# Altium footprint library AUVic_PCB_Library_Regulators.PcbLib: 153 footprints (part 9 of 10)
Each footprint in its own frame and in the unit in brackets; x right, y up, seen from the top. Pads: shape width x height; smd on the part's side, far side on the other; paste and mask are expansions set on the pad; w line width, h text height; cw(c..) or ccw(c..) is an arc to the next point about the centre after c.
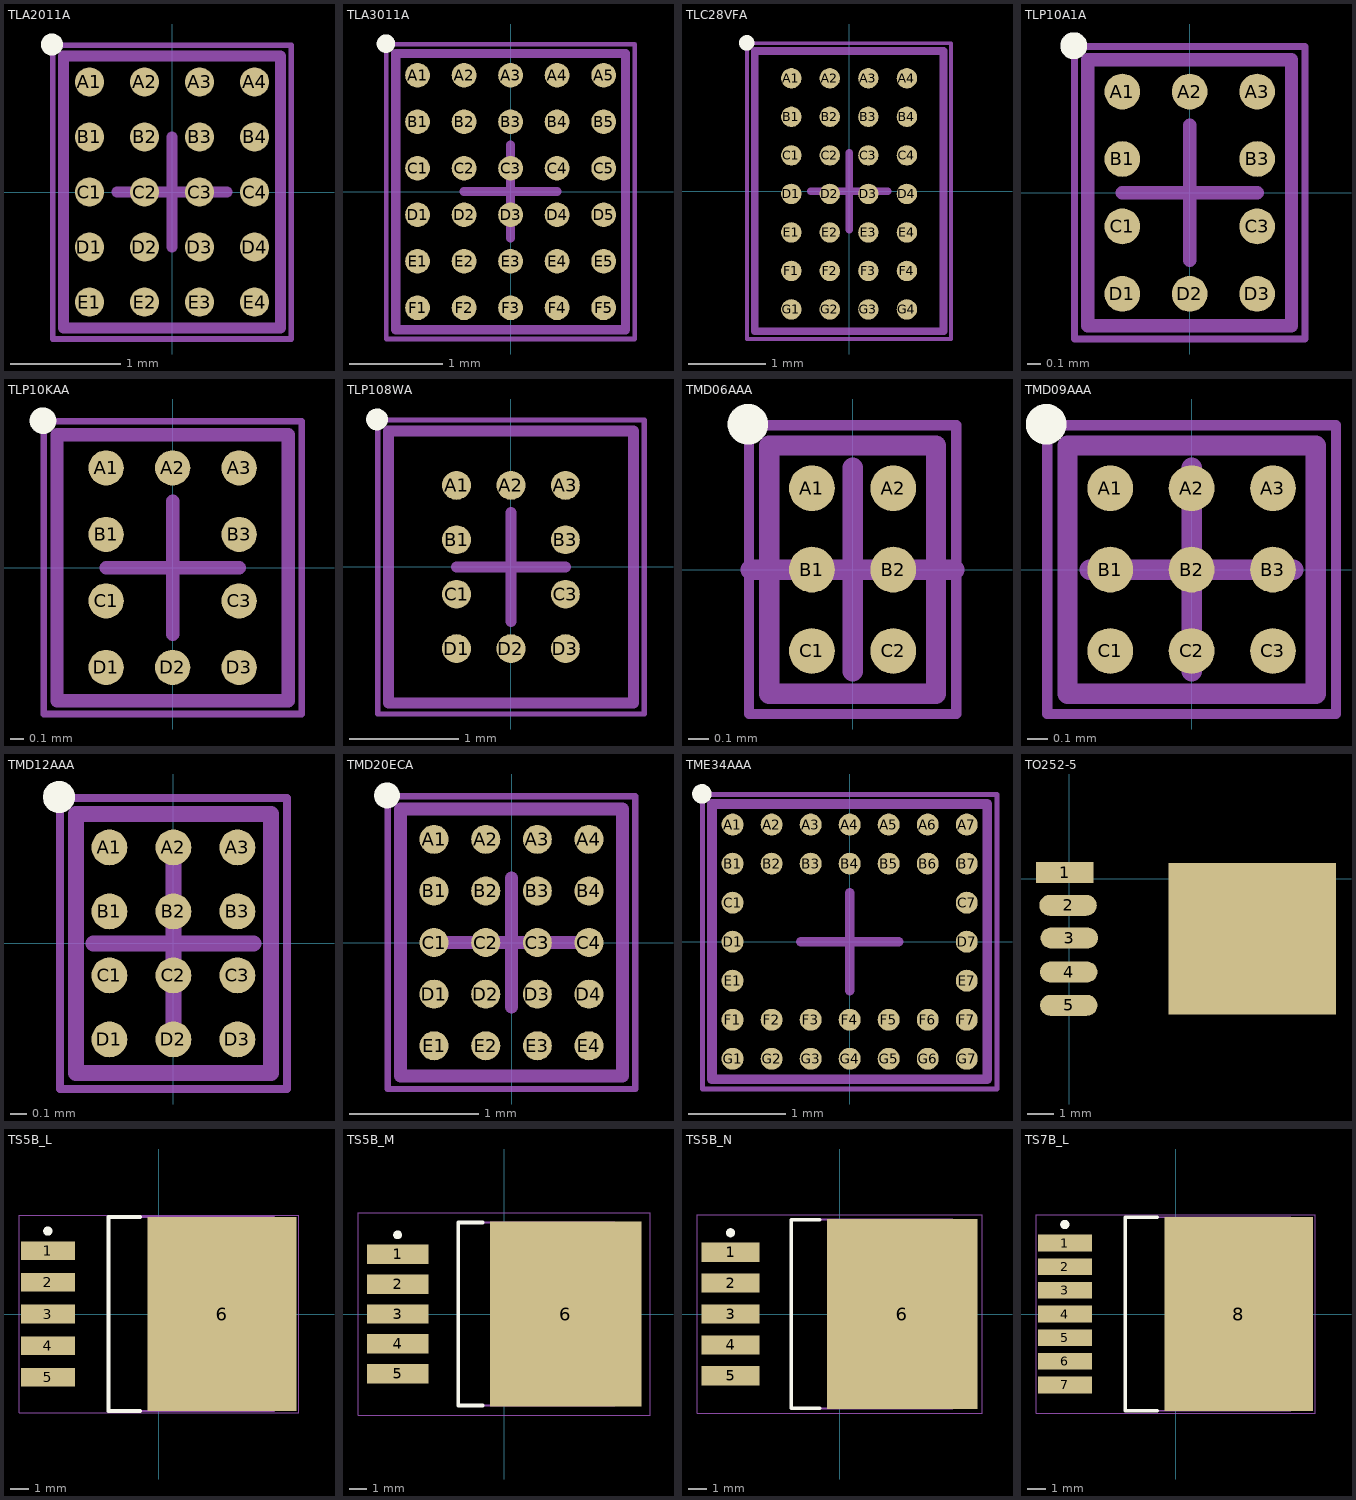
[diagram p8: the footprints below, top view; thin cyan lines are the x and y axes]

## TLA2011A [mm] "Micro SMD, 20-Leads, Body 2.47x1.97mm, Pitch 0.5mm, NSC Recommended"
height 0.68
pads (20):
  round 0.265 smd paste-0.132 mask+0.05: A1(-0.75,1) A2(-0.25,1) A3(0.25,1) A4(0.75,1) B1(-0.75,0.5) B2(-0.25,0.5) B3(0.25,0.5) B4(0.75,0.5) C1(-0.75,0) C2(-0.25,0) C3(0.25,0) C4(0.75,0) D1(-0.75,-0.5) D2(-0.25,-0.5) D3(0.25,-0.5) D4(0.75,-0.5) E1(-0.75,-1) E2(-0.25,-1) E3(0.25,-1) E4(0.75,-1)
Top Overlay:
  circle w0.1: c-1.09,1.34 r0.05
Top Paste:
  drawing of 180 lines, arcs and shapes, not listed
Body Top:
  lines w0.1: -0.985,-1.235 0.985,-1.235 0.985,1.235 -0.985,1.235 -0.985,-1.235
Courtyard Top:
  lines w0.05: -1.085,-1.335 1.085,-1.335 1.085,1.335 -1.085,1.335 -1.085,-1.335
  lines w0.1: -0.5,0 0.5,0 ; 0,-0.5 0,0.5
3D body: height 0.68, standoff 0, extent -0.985,-1.235 0.985,1.235

## TLA3011A [mm] "Micro SMD, 30-Leads, Body 2.97x2.47mm, Pitch 0.5mm, NSC Recommended"
height 0.68
pads (30):
  round 0.265 smd paste-0.132 mask+0.05: A1(-1,1.25) A2(-0.5,1.25) A3(0,1.25) A4(0.5,1.25) A5(1,1.25) B1(-1,0.75) B2(-0.5,0.75) B3(0,0.75) B4(0.5,0.75) B5(1,0.75) C1(-1,0.25) C2(-0.5,0.25) C3(0,0.25) C4(0.5,0.25) C5(1,0.25) D1(-1,-0.25) D2(-0.5,-0.25) D3(0,-0.25) D4(0.5,-0.25) D5(1,-0.25) E1(-1,-0.75) E2(-0.5,-0.75) E3(0,-0.75) E4(0.5,-0.75) E5(1,-0.75) F1(-1,-1.25) F2(-0.5,-1.25) F3(0,-1.25) F4(0.5,-1.25) F5(1,-1.25)
Top Overlay:
  circle w0.1: c-1.34,1.59 r0.05
Top Paste:
  drawing of 270 lines, arcs and shapes, not listed
Body Top:
  lines w0.1: -1.235,-1.485 1.235,-1.485 1.235,1.485 -1.235,1.485 -1.235,-1.485
Courtyard Top:
  lines w0.05: -1.335,-1.585 1.335,-1.585 1.335,1.585 -1.335,1.585 -1.335,-1.585
  lines w0.1: -0.5,0 0.5,0 ; 0,-0.5 0,0.5
3D body: height 0.68, standoff 0, extent -1.235,-1.485 1.235,1.485

## TLC28VFA [mm] "Micro SMD, 28-Leads, Body 3.64x2.45mm, Pitch 0.5mm, NSC Recommended"
height 0.68
pads (28):
  round 0.265 smd paste-0.132 mask+0.05: A1(-0.75,1.464) A2(-0.25,1.464) A3(0.25,1.464) A4(0.75,1.464) B1(-0.75,0.964) B2(-0.25,0.964) B3(0.25,0.964) B4(0.75,0.964) C1(-0.75,0.464) C2(-0.25,0.464) C3(0.25,0.464) C4(0.75,0.464) D1(-0.75,-0.036) D2(-0.25,-0.036) D3(0.25,-0.036) D4(0.75,-0.036) E1(-0.75,-0.536) E2(-0.25,-0.536) E3(0.25,-0.536) E4(0.75,-0.536) F1(-0.75,-1.036) F2(-0.25,-1.036) F3(0.25,-1.036) F4(0.75,-1.036) G1(-0.75,-1.536) G2(-0.25,-1.536) G3(0.25,-1.536) G4(0.75,-1.536)
Top Overlay:
  circle w0.1: c-1.33,1.925 r0.05
Top Paste:
  drawing of 252 lines, arcs and shapes, not listed
Body Top:
  lines w0.1: -1.225,-1.82 1.225,-1.82 1.225,1.82 -1.225,1.82 -1.225,-1.82
Courtyard Top:
  lines w0.05: -1.325,-1.92 1.325,-1.92 1.325,1.92 -1.325,1.92 -1.325,-1.92
  lines w0.1: -0.5,0 0.5,0 ; 0,-0.5 0,0.5
3D body: height 0.68, standoff 0, extent -1.225,-1.82 1.225,1.82

## TLP10A1A [mm] "Micro SMD, 10-Leads, Body 1.97x1.51mm, Pitch 0.5mm, NSC Recommended"
height 0.68
pads (10):
  round 0.265 smd paste-0.132 mask+0.05: A1(-0.5,0.75) A2(0,0.75) A3(0.5,0.75) B1(-0.5,0.25) B3(0.5,0.25) C1(-0.5,-0.25) C3(0.5,-0.25) D1(-0.5,-0.75) D2(0,-0.75) D3(0.5,-0.75)
Top Overlay:
  circle w0.1: c-0.86,1.09 r0.05
Top Paste:
  circle w0.05: c-0.575,0.675 r0.025
  circle w0.05: c-0.425,0.825 r0.025
  circle w0.05: c-0.425,0.675 r0.025
  circle w0.05: c-0.575,0.825 r0.025
  circle w0.05: c-0.075,0.675 r0.025
  circle w0.05: c0.075,0.825 r0.025
  circle w0.05: c0.075,0.675 r0.025
  circle w0.05: c-0.075,0.825 r0.025
  circle w0.05: c0.425,0.675 r0.025
  circle w0.05: c0.575,0.825 r0.025
  circle w0.05: c0.575,0.675 r0.025
  circle w0.05: c0.425,0.825 r0.025
  circle w0.05: c-0.575,0.175 r0.025
  circle w0.05: c-0.425,0.325 r0.025
  circle w0.05: c-0.425,0.175 r0.025
  circle w0.05: c-0.575,0.325 r0.025
  circle w0.05: c0.425,0.175 r0.025
  circle w0.05: c0.575,0.325 r0.025
  circle w0.05: c0.575,0.175 r0.025
  circle w0.05: c0.425,0.325 r0.025
  circle w0.05: c-0.575,-0.325 r0.025
  circle w0.05: c-0.425,-0.175 r0.025
  circle w0.05: c-0.425,-0.325 r0.025
  circle w0.05: c-0.575,-0.175 r0.025
  circle w0.05: c0.425,-0.325 r0.025
  circle w0.05: c0.575,-0.175 r0.025
  circle w0.05: c0.575,-0.325 r0.025
  circle w0.05: c0.425,-0.175 r0.025
  circle w0.05: c-0.575,-0.825 r0.025
  circle w0.05: c-0.425,-0.675 r0.025
  circle w0.05: c-0.425,-0.825 r0.025
  circle w0.05: c-0.575,-0.675 r0.025
  circle w0.05: c-0.075,-0.825 r0.025
  circle w0.05: c0.075,-0.675 r0.025
  circle w0.05: c0.075,-0.825 r0.025
  circle w0.05: c-0.075,-0.675 r0.025
  circle w0.05: c0.425,-0.825 r0.025
  circle w0.05: c0.575,-0.675 r0.025
  circle w0.05: c0.575,-0.825 r0.025
  circle w0.05: c0.425,-0.675 r0.025
  region: -0.575,0.825 -0.575,0.675 -0.425,0.675 -0.425,0.825
  region: -0.575,0.675 -0.575,0.825 -0.625,0.825 -0.625,0.675
  rectangle: -0.575,0.825 -0.425,0.875
  region: -0.425,0.825 -0.425,0.675 -0.375,0.675 -0.375,0.825
  region: -0.425,0.675 -0.575,0.675 -0.575,0.625 -0.425,0.625
  region: -0.075,0.825 -0.075,0.675 0.075,0.675 0.075,0.825
  region: -0.075,0.675 -0.075,0.825 -0.125,0.825 -0.125,0.675
  rectangle: -0.075,0.825 0.075,0.875
  region: 0.075,0.825 0.075,0.675 0.125,0.675 0.125,0.825
  region: 0.075,0.675 -0.075,0.675 -0.075,0.625 0.075,0.625
  region: 0.425,0.825 0.425,0.675 0.575,0.675 0.575,0.825
  region: 0.425,0.675 0.425,0.825 0.375,0.825 0.375,0.675
  rectangle: 0.425,0.825 0.575,0.875
  region: 0.575,0.825 0.575,0.675 0.625,0.675 0.625,0.825
  region: 0.575,0.675 0.425,0.675 0.425,0.625 0.575,0.625
  region: -0.575,0.325 -0.575,0.175 -0.425,0.175 -0.425,0.325
  region: -0.575,0.175 -0.575,0.325 -0.625,0.325 -0.625,0.175
  rectangle: -0.575,0.325 -0.425,0.375
  region: -0.425,0.325 -0.425,0.175 -0.375,0.175 -0.375,0.325
  region: -0.425,0.175 -0.575,0.175 -0.575,0.125 -0.425,0.125
  region: 0.425,0.325 0.425,0.175 0.575,0.175 0.575,0.325
  region: 0.425,0.175 0.425,0.325 0.375,0.325 0.375,0.175
  rectangle: 0.425,0.325 0.575,0.375
  region: 0.575,0.325 0.575,0.175 0.625,0.175 0.625,0.325
  region: 0.575,0.175 0.425,0.175 0.425,0.125 0.575,0.125
  region: -0.575,-0.175 -0.575,-0.325 -0.425,-0.325 -0.425,-0.175
  region: -0.575,-0.325 -0.575,-0.175 -0.625,-0.175 -0.625,-0.325
  rectangle: -0.575,-0.175 -0.425,-0.125
  region: -0.425,-0.175 -0.425,-0.325 -0.375,-0.325 -0.375,-0.175
  region: -0.425,-0.325 -0.575,-0.325 -0.575,-0.375 -0.425,-0.375
  region: 0.425,-0.175 0.425,-0.325 0.575,-0.325 0.575,-0.175
  region: 0.425,-0.325 0.425,-0.175 0.375,-0.175 0.375,-0.325
  rectangle: 0.425,-0.175 0.575,-0.125
  region: 0.575,-0.175 0.575,-0.325 0.625,-0.325 0.625,-0.175
  region: 0.575,-0.325 0.425,-0.325 0.425,-0.375 0.575,-0.375
  region: -0.575,-0.675 -0.575,-0.825 -0.425,-0.825 -0.425,-0.675
  region: -0.575,-0.825 -0.575,-0.675 -0.625,-0.675 -0.625,-0.825
  rectangle: -0.575,-0.675 -0.425,-0.625
  region: -0.425,-0.675 -0.425,-0.825 -0.375,-0.825 -0.375,-0.675
  region: -0.425,-0.825 -0.575,-0.825 -0.575,-0.875 -0.425,-0.875
  region: -0.075,-0.675 -0.075,-0.825 0.075,-0.825 0.075,-0.675
  region: -0.075,-0.825 -0.075,-0.675 -0.125,-0.675 -0.125,-0.825
  rectangle: -0.075,-0.675 0.075,-0.625
  region: 0.075,-0.675 0.075,-0.825 0.125,-0.825 0.125,-0.675
  region: 0.075,-0.825 -0.075,-0.825 -0.075,-0.875 0.075,-0.875
  region: 0.425,-0.675 0.425,-0.825 0.575,-0.825 0.575,-0.675
  region: 0.425,-0.825 0.425,-0.675 0.375,-0.675 0.375,-0.825
  rectangle: 0.425,-0.675 0.575,-0.625
  region: 0.575,-0.675 0.575,-0.825 0.625,-0.825 0.625,-0.675
  region: 0.575,-0.825 0.425,-0.825 0.425,-0.875 0.575,-0.875
Body Top:
  lines w0.1: -0.755,-0.985 -0.755,0.985 0.755,0.985 0.755,-0.985 -0.755,-0.985
Courtyard Top:
  lines w0.05: -0.855,-1.085 -0.855,1.085 0.855,1.085 0.855,-1.085 -0.855,-1.085
  lines w0.1: -0.5,0 0.5,0 ; 0,-0.5 0,0.5
3D body: height 0.68, standoff 0, extent -0.755,-0.985 0.755,0.985

## TLP10KAA [mm] "Micro SMD, 10-Leads, Body 2x1.74mm, Pitch 0.5mm, NSC Recommended"
height 0.68
pads (10):
  round 0.265 smd paste-0.132 mask+0.05: A1(-0.5,0.75) A2(0,0.75) A3(0.5,0.75) B1(-0.5,0.25) B3(0.5,0.25) C1(-0.5,-0.25) C3(0.5,-0.25) D1(-0.5,-0.75) D2(0,-0.75) D3(0.5,-0.75)
Top Overlay:
  circle w0.1: c-0.975,1.105 r0.05
Top Paste:
  circle w0.05: c-0.575,0.675 r0.025
  circle w0.05: c-0.425,0.825 r0.025
  circle w0.05: c-0.425,0.675 r0.025
  circle w0.05: c-0.575,0.825 r0.025
  circle w0.05: c-0.075,0.675 r0.025
  circle w0.05: c0.075,0.825 r0.025
  circle w0.05: c0.075,0.675 r0.025
  circle w0.05: c-0.075,0.825 r0.025
  circle w0.05: c0.425,0.675 r0.025
  circle w0.05: c0.575,0.825 r0.025
  circle w0.05: c0.575,0.675 r0.025
  circle w0.05: c0.425,0.825 r0.025
  circle w0.05: c-0.575,0.175 r0.025
  circle w0.05: c-0.425,0.325 r0.025
  circle w0.05: c-0.425,0.175 r0.025
  circle w0.05: c-0.575,0.325 r0.025
  circle w0.05: c0.425,0.175 r0.025
  circle w0.05: c0.575,0.325 r0.025
  circle w0.05: c0.575,0.175 r0.025
  circle w0.05: c0.425,0.325 r0.025
  circle w0.05: c-0.575,-0.325 r0.025
  circle w0.05: c-0.425,-0.175 r0.025
  circle w0.05: c-0.425,-0.325 r0.025
  circle w0.05: c-0.575,-0.175 r0.025
  circle w0.05: c0.425,-0.325 r0.025
  circle w0.05: c0.575,-0.175 r0.025
  circle w0.05: c0.575,-0.325 r0.025
  circle w0.05: c0.425,-0.175 r0.025
  circle w0.05: c-0.575,-0.825 r0.025
  circle w0.05: c-0.425,-0.675 r0.025
  circle w0.05: c-0.425,-0.825 r0.025
  circle w0.05: c-0.575,-0.675 r0.025
  circle w0.05: c-0.075,-0.825 r0.025
  circle w0.05: c0.075,-0.675 r0.025
  circle w0.05: c0.075,-0.825 r0.025
  circle w0.05: c-0.075,-0.675 r0.025
  circle w0.05: c0.425,-0.825 r0.025
  circle w0.05: c0.575,-0.675 r0.025
  circle w0.05: c0.575,-0.825 r0.025
  circle w0.05: c0.425,-0.675 r0.025
  region: -0.575,0.825 -0.575,0.675 -0.425,0.675 -0.425,0.825
  region: -0.575,0.675 -0.575,0.825 -0.625,0.825 -0.625,0.675
  rectangle: -0.575,0.825 -0.425,0.875
  region: -0.425,0.825 -0.425,0.675 -0.375,0.675 -0.375,0.825
  region: -0.425,0.675 -0.575,0.675 -0.575,0.625 -0.425,0.625
  region: -0.075,0.825 -0.075,0.675 0.075,0.675 0.075,0.825
  region: -0.075,0.675 -0.075,0.825 -0.125,0.825 -0.125,0.675
  rectangle: -0.075,0.825 0.075,0.875
  region: 0.075,0.825 0.075,0.675 0.125,0.675 0.125,0.825
  region: 0.075,0.675 -0.075,0.675 -0.075,0.625 0.075,0.625
  region: 0.425,0.825 0.425,0.675 0.575,0.675 0.575,0.825
  region: 0.425,0.675 0.425,0.825 0.375,0.825 0.375,0.675
  rectangle: 0.425,0.825 0.575,0.875
  region: 0.575,0.825 0.575,0.675 0.625,0.675 0.625,0.825
  region: 0.575,0.675 0.425,0.675 0.425,0.625 0.575,0.625
  region: -0.575,0.325 -0.575,0.175 -0.425,0.175 -0.425,0.325
  region: -0.575,0.175 -0.575,0.325 -0.625,0.325 -0.625,0.175
  rectangle: -0.575,0.325 -0.425,0.375
  region: -0.425,0.325 -0.425,0.175 -0.375,0.175 -0.375,0.325
  region: -0.425,0.175 -0.575,0.175 -0.575,0.125 -0.425,0.125
  region: 0.425,0.325 0.425,0.175 0.575,0.175 0.575,0.325
  region: 0.425,0.175 0.425,0.325 0.375,0.325 0.375,0.175
  rectangle: 0.425,0.325 0.575,0.375
  region: 0.575,0.325 0.575,0.175 0.625,0.175 0.625,0.325
  region: 0.575,0.175 0.425,0.175 0.425,0.125 0.575,0.125
  region: -0.575,-0.175 -0.575,-0.325 -0.425,-0.325 -0.425,-0.175
  region: -0.575,-0.325 -0.575,-0.175 -0.625,-0.175 -0.625,-0.325
  rectangle: -0.575,-0.175 -0.425,-0.125
  region: -0.425,-0.175 -0.425,-0.325 -0.375,-0.325 -0.375,-0.175
  region: -0.425,-0.325 -0.575,-0.325 -0.575,-0.375 -0.425,-0.375
  region: 0.425,-0.175 0.425,-0.325 0.575,-0.325 0.575,-0.175
  region: 0.425,-0.325 0.425,-0.175 0.375,-0.175 0.375,-0.325
  rectangle: 0.425,-0.175 0.575,-0.125
  region: 0.575,-0.175 0.575,-0.325 0.625,-0.325 0.625,-0.175
  region: 0.575,-0.325 0.425,-0.325 0.425,-0.375 0.575,-0.375
  region: -0.575,-0.675 -0.575,-0.825 -0.425,-0.825 -0.425,-0.675
  region: -0.575,-0.825 -0.575,-0.675 -0.625,-0.675 -0.625,-0.825
  rectangle: -0.575,-0.675 -0.425,-0.625
  region: -0.425,-0.675 -0.425,-0.825 -0.375,-0.825 -0.375,-0.675
  region: -0.425,-0.825 -0.575,-0.825 -0.575,-0.875 -0.425,-0.875
  region: -0.075,-0.675 -0.075,-0.825 0.075,-0.825 0.075,-0.675
  region: -0.075,-0.825 -0.075,-0.675 -0.125,-0.675 -0.125,-0.825
  rectangle: -0.075,-0.675 0.075,-0.625
  region: 0.075,-0.675 0.075,-0.825 0.125,-0.825 0.125,-0.675
  region: 0.075,-0.825 -0.075,-0.825 -0.075,-0.875 0.075,-0.875
  region: 0.425,-0.675 0.425,-0.825 0.575,-0.825 0.575,-0.675
  region: 0.425,-0.825 0.425,-0.675 0.375,-0.675 0.375,-0.825
  rectangle: 0.425,-0.675 0.575,-0.625
  region: 0.575,-0.675 0.575,-0.825 0.625,-0.825 0.625,-0.675
  region: 0.575,-0.825 0.425,-0.825 0.425,-0.875 0.575,-0.875
Body Top:
  lines w0.1: -0.87,-1 -0.87,1 0.87,1 0.87,-1 -0.87,-1
Courtyard Top:
  lines w0.05: -0.97,-1.1 -0.97,1.1 0.97,1.1 0.97,-1.1 -0.97,-1.1
  lines w0.1: -0.5,0 0.5,0 ; 0,-0.5 0,0.5
3D body: height 0.68, standoff 0, extent -0.87,-1 0.87,1

## TLP108WA [mm] "Micro SMD, 10-Leads, Body 2.5x2.25mm, Pitch 0.5mm, NSC Recommended"
height 0.68
pads (10):
  round 0.265 smd paste-0.132 mask+0.05: A1(-0.5,0.75) A2(0,0.75) A3(0.5,0.75) B1(-0.5,0.25) B3(0.5,0.25) C1(-0.5,-0.25) C3(0.5,-0.25) D1(-0.5,-0.75) D2(0,-0.75) D3(0.5,-0.75)
Top Overlay:
  circle w0.1: c-1.23,1.355 r0.05
Top Paste:
  circle w0.05: c-0.575,0.675 r0.025
  circle w0.05: c-0.425,0.825 r0.025
  circle w0.05: c-0.425,0.675 r0.025
  circle w0.05: c-0.575,0.825 r0.025
  circle w0.05: c-0.075,0.675 r0.025
  circle w0.05: c0.075,0.825 r0.025
  circle w0.05: c0.075,0.675 r0.025
  circle w0.05: c-0.075,0.825 r0.025
  circle w0.05: c0.425,0.675 r0.025
  circle w0.05: c0.575,0.825 r0.025
  circle w0.05: c0.575,0.675 r0.025
  circle w0.05: c0.425,0.825 r0.025
  circle w0.05: c-0.575,0.175 r0.025
  circle w0.05: c-0.425,0.325 r0.025
  circle w0.05: c-0.425,0.175 r0.025
  circle w0.05: c-0.575,0.325 r0.025
  circle w0.05: c0.425,0.175 r0.025
  circle w0.05: c0.575,0.325 r0.025
  circle w0.05: c0.575,0.175 r0.025
  circle w0.05: c0.425,0.325 r0.025
  circle w0.05: c-0.575,-0.325 r0.025
  circle w0.05: c-0.425,-0.175 r0.025
  circle w0.05: c-0.425,-0.325 r0.025
  circle w0.05: c-0.575,-0.175 r0.025
  circle w0.05: c0.425,-0.325 r0.025
  circle w0.05: c0.575,-0.175 r0.025
  circle w0.05: c0.575,-0.325 r0.025
  circle w0.05: c0.425,-0.175 r0.025
  circle w0.05: c-0.575,-0.825 r0.025
  circle w0.05: c-0.425,-0.675 r0.025
  circle w0.05: c-0.425,-0.825 r0.025
  circle w0.05: c-0.575,-0.675 r0.025
  circle w0.05: c-0.075,-0.825 r0.025
  circle w0.05: c0.075,-0.675 r0.025
  circle w0.05: c0.075,-0.825 r0.025
  circle w0.05: c-0.075,-0.675 r0.025
  circle w0.05: c0.425,-0.825 r0.025
  circle w0.05: c0.575,-0.675 r0.025
  circle w0.05: c0.575,-0.825 r0.025
  circle w0.05: c0.425,-0.675 r0.025
  region: -0.575,0.825 -0.575,0.675 -0.425,0.675 -0.425,0.825
  region: -0.575,0.675 -0.575,0.825 -0.625,0.825 -0.625,0.675
  rectangle: -0.575,0.825 -0.425,0.875
  region: -0.425,0.825 -0.425,0.675 -0.375,0.675 -0.375,0.825
  region: -0.425,0.675 -0.575,0.675 -0.575,0.625 -0.425,0.625
  region: -0.075,0.825 -0.075,0.675 0.075,0.675 0.075,0.825
  region: -0.075,0.675 -0.075,0.825 -0.125,0.825 -0.125,0.675
  rectangle: -0.075,0.825 0.075,0.875
  region: 0.075,0.825 0.075,0.675 0.125,0.675 0.125,0.825
  region: 0.075,0.675 -0.075,0.675 -0.075,0.625 0.075,0.625
  region: 0.425,0.825 0.425,0.675 0.575,0.675 0.575,0.825
  region: 0.425,0.675 0.425,0.825 0.375,0.825 0.375,0.675
  rectangle: 0.425,0.825 0.575,0.875
  region: 0.575,0.825 0.575,0.675 0.625,0.675 0.625,0.825
  region: 0.575,0.675 0.425,0.675 0.425,0.625 0.575,0.625
  region: -0.575,0.325 -0.575,0.175 -0.425,0.175 -0.425,0.325
  region: -0.575,0.175 -0.575,0.325 -0.625,0.325 -0.625,0.175
  rectangle: -0.575,0.325 -0.425,0.375
  region: -0.425,0.325 -0.425,0.175 -0.375,0.175 -0.375,0.325
  region: -0.425,0.175 -0.575,0.175 -0.575,0.125 -0.425,0.125
  region: 0.425,0.325 0.425,0.175 0.575,0.175 0.575,0.325
  region: 0.425,0.175 0.425,0.325 0.375,0.325 0.375,0.175
  rectangle: 0.425,0.325 0.575,0.375
  region: 0.575,0.325 0.575,0.175 0.625,0.175 0.625,0.325
  region: 0.575,0.175 0.425,0.175 0.425,0.125 0.575,0.125
  region: -0.575,-0.175 -0.575,-0.325 -0.425,-0.325 -0.425,-0.175
  region: -0.575,-0.325 -0.575,-0.175 -0.625,-0.175 -0.625,-0.325
  rectangle: -0.575,-0.175 -0.425,-0.125
  region: -0.425,-0.175 -0.425,-0.325 -0.375,-0.325 -0.375,-0.175
  region: -0.425,-0.325 -0.575,-0.325 -0.575,-0.375 -0.425,-0.375
  region: 0.425,-0.175 0.425,-0.325 0.575,-0.325 0.575,-0.175
  region: 0.425,-0.325 0.425,-0.175 0.375,-0.175 0.375,-0.325
  rectangle: 0.425,-0.175 0.575,-0.125
  region: 0.575,-0.175 0.575,-0.325 0.625,-0.325 0.625,-0.175
  region: 0.575,-0.325 0.425,-0.325 0.425,-0.375 0.575,-0.375
  region: -0.575,-0.675 -0.575,-0.825 -0.425,-0.825 -0.425,-0.675
  region: -0.575,-0.825 -0.575,-0.675 -0.625,-0.675 -0.625,-0.825
  rectangle: -0.575,-0.675 -0.425,-0.625
  region: -0.425,-0.675 -0.425,-0.825 -0.375,-0.825 -0.375,-0.675
  region: -0.425,-0.825 -0.575,-0.825 -0.575,-0.875 -0.425,-0.875
  region: -0.075,-0.675 -0.075,-0.825 0.075,-0.825 0.075,-0.675
  region: -0.075,-0.825 -0.075,-0.675 -0.125,-0.675 -0.125,-0.825
  rectangle: -0.075,-0.675 0.075,-0.625
  region: 0.075,-0.675 0.075,-0.825 0.125,-0.825 0.125,-0.675
  region: 0.075,-0.825 -0.075,-0.825 -0.075,-0.875 0.075,-0.875
  region: 0.425,-0.675 0.425,-0.825 0.575,-0.825 0.575,-0.675
  region: 0.425,-0.825 0.425,-0.675 0.375,-0.675 0.375,-0.825
  rectangle: 0.425,-0.675 0.575,-0.625
  region: 0.575,-0.675 0.575,-0.825 0.625,-0.825 0.625,-0.675
  region: 0.575,-0.825 0.425,-0.825 0.425,-0.875 0.575,-0.875
Body Top:
  lines w0.1: -1.125,-1.25 -1.125,1.25 1.125,1.25 1.125,-1.25 -1.125,-1.25
Courtyard Top:
  lines w0.05: -1.225,-1.35 -1.225,1.35 1.225,1.35 1.225,-1.35 -1.225,-1.35
  lines w0.1: -0.5,0 0.5,0 ; 0,-0.5 0,0.5
3D body: height 0.68, standoff 0, extent -1.125,-1.25 1.125,1.25

## TMD06AAA [mm] "Micro SMD, 6-Leads, Body 1.22x0.82mm, Pitch 0.4mm, NSC Recommended"
height 0.68
pads (6):
  round 0.225 smd paste-0.112 mask+0.05: A1(-0.2,0.4) A2(0.2,0.4) B1(-0.2,0) B2(0.2,0) C1(-0.2,-0.4) C2(0.2,-0.4)
Top Overlay:
  circle w0.1: c-0.515,0.715 r0.05
Top Paste:
  circle w0.05: c0.275,-0.475 r0.025
  circle w0.05: c0.125,-0.325 r0.025
  circle w0.05: c0.125,-0.475 r0.025
  circle w0.05: c0.275,-0.325 r0.025
  circle w0.05: c-0.125,-0.475 r0.025
  circle w0.05: c-0.275,-0.325 r0.025
  circle w0.05: c-0.275,-0.475 r0.025
  circle w0.05: c-0.125,-0.325 r0.025
  circle w0.05: c0.275,-0.075 r0.025
  circle w0.05: c0.125,0.075 r0.025
  circle w0.05: c0.125,-0.075 r0.025
  circle w0.05: c0.275,0.075 r0.025
  circle w0.05: c-0.125,-0.075 r0.025
  circle w0.05: c-0.275,0.075 r0.025
  circle w0.05: c-0.275,-0.075 r0.025
  circle w0.05: c-0.125,0.075 r0.025
  circle w0.05: c0.275,0.325 r0.025
  circle w0.05: c0.125,0.475 r0.025
  circle w0.05: c0.125,0.325 r0.025
  circle w0.05: c0.275,0.475 r0.025
  circle w0.05: c-0.125,0.325 r0.025
  circle w0.05: c-0.275,0.475 r0.025
  circle w0.05: c-0.275,0.325 r0.025
  circle w0.05: c-0.125,0.475 r0.025
  region: 0.125,-0.325 0.125,-0.475 0.275,-0.475 0.275,-0.325
  region: 0.325,-0.475 0.325,-0.325 0.275,-0.325 0.275,-0.475
  region: 0.275,-0.275 0.125,-0.275 0.125,-0.325 0.275,-0.325
  region: 0.075,-0.325 0.075,-0.475 0.125,-0.475 0.125,-0.325
  rectangle: 0.125,-0.525 0.275,-0.475
  region: -0.275,-0.325 -0.275,-0.475 -0.125,-0.475 -0.125,-0.325
  region: -0.075,-0.475 -0.075,-0.325 -0.125,-0.325 -0.125,-0.475
  region: -0.125,-0.275 -0.275,-0.275 -0.275,-0.325 -0.125,-0.325
  region: -0.325,-0.325 -0.325,-0.475 -0.275,-0.475 -0.275,-0.325
  rectangle: -0.275,-0.525 -0.125,-0.475
  region: 0.125,0.075 0.125,-0.075 0.275,-0.075 0.275,0.075
  region: 0.325,-0.075 0.325,0.075 0.275,0.075 0.275,-0.075
  region: 0.275,0.125 0.125,0.125 0.125,0.075 0.275,0.075
  region: 0.075,0.075 0.075,-0.075 0.125,-0.075 0.125,0.075
  rectangle: 0.125,-0.125 0.275,-0.075
  region: -0.275,0.075 -0.275,-0.075 -0.125,-0.075 -0.125,0.075
  region: -0.075,-0.075 -0.075,0.075 -0.125,0.075 -0.125,-0.075
  region: -0.125,0.125 -0.275,0.125 -0.275,0.075 -0.125,0.075
  region: -0.325,0.075 -0.325,-0.075 -0.275,-0.075 -0.275,0.075
  rectangle: -0.275,-0.125 -0.125,-0.075
  region: 0.125,0.475 0.125,0.325 0.275,0.325 0.275,0.475
  region: 0.325,0.325 0.325,0.475 0.275,0.475 0.275,0.325
  region: 0.275,0.525 0.125,0.525 0.125,0.475 0.275,0.475
  region: 0.075,0.475 0.075,0.325 0.125,0.325 0.125,0.475
  rectangle: 0.125,0.275 0.275,0.325
  region: -0.275,0.475 -0.275,0.325 -0.125,0.325 -0.125,0.475
  region: -0.075,0.325 -0.075,0.475 -0.125,0.475 -0.125,0.325
  region: -0.125,0.525 -0.275,0.525 -0.275,0.475 -0.125,0.475
  region: -0.325,0.475 -0.325,0.325 -0.275,0.325 -0.275,0.475
  rectangle: -0.275,0.275 -0.125,0.325
Body Top:
  lines w0.1: -0.41,-0.61 0.41,-0.61 0.41,0.61 -0.41,0.61 -0.41,-0.61
Courtyard Top:
  lines w0.05: -0.51,-0.71 0.51,-0.71 0.51,0.71 -0.51,0.71 -0.51,-0.71
  lines w0.1: -0.5,0 0.5,0 ; 0,-0.5 0,0.5
3D body: height 0.68, standoff 0, extent -0.41,-0.61 0.41,0.61

## TMD09AAA [mm] "Micro SMD, 9-Leads, Body 1.22x1.22mm, Pitch 0.4mm, NSC Recommended"
height 0.68
pads (9):
  round 0.225 smd paste-0.112 mask+0.05: A1(-0.4,0.4) A2(0,0.4) A3(0.4,0.4) B1(-0.4,0) B2(0,0) B3(0.4,0) C1(-0.4,-0.4) C2(0,-0.4) C3(0.4,-0.4)
Top Overlay:
  circle w0.1: c-0.715,0.715 r0.05
Top Paste:
  circle w0.05: c-0.325,0.475 r0.025
  circle w0.05: c-0.475,0.325 r0.025
  circle w0.05: c-0.475,0.475 r0.025
  circle w0.05: c-0.325,0.325 r0.025
  circle w0.05: c0.075,0.475 r0.025
  circle w0.05: c-0.075,0.325 r0.025
  circle w0.05: c-0.075,0.475 r0.025
  circle w0.05: c0.075,0.325 r0.025
  circle w0.05: c0.475,0.475 r0.025
  circle w0.05: c0.325,0.325 r0.025
  circle w0.05: c0.325,0.475 r0.025
  circle w0.05: c0.475,0.325 r0.025
  circle w0.05: c-0.325,0.075 r0.025
  circle w0.05: c-0.475,-0.075 r0.025
  circle w0.05: c-0.475,0.075 r0.025
  circle w0.05: c-0.325,-0.075 r0.025
  circle w0.05: c0.075,0.075 r0.025
  circle w0.05: c-0.075,-0.075 r0.025
  circle w0.05: c-0.075,0.075 r0.025
  circle w0.05: c0.075,-0.075 r0.025
  circle w0.05: c0.475,0.075 r0.025
  circle w0.05: c0.325,-0.075 r0.025
  circle w0.05: c0.325,0.075 r0.025
  circle w0.05: c0.475,-0.075 r0.025
  circle w0.05: c-0.325,-0.325 r0.025
  circle w0.05: c-0.475,-0.475 r0.025
  circle w0.05: c-0.475,-0.325 r0.025
  circle w0.05: c-0.325,-0.475 r0.025
  circle w0.05: c0.075,-0.325 r0.025
  circle w0.05: c-0.075,-0.475 r0.025
  circle w0.05: c-0.075,-0.325 r0.025
  circle w0.05: c0.075,-0.475 r0.025
  circle w0.05: c0.475,-0.325 r0.025
  circle w0.05: c0.325,-0.475 r0.025
  circle w0.05: c0.325,-0.325 r0.025
  circle w0.05: c0.475,-0.475 r0.025
  rectangle: -0.475,0.275 -0.325,0.325
  region: -0.525,0.475 -0.525,0.325 -0.475,0.325 -0.475,0.475
  region: -0.325,0.525 -0.475,0.525 -0.475,0.475 -0.325,0.475
  region: -0.275,0.325 -0.275,0.475 -0.325,0.475 -0.325,0.325
  region: -0.475,0.475 -0.475,0.325 -0.325,0.325 -0.325,0.475
  rectangle: -0.075,0.275 0.075,0.325
  region: -0.125,0.475 -0.125,0.325 -0.075,0.325 -0.075,0.475
  region: 0.075,0.525 -0.075,0.525 -0.075,0.475 0.075,0.475
  region: 0.125,0.325 0.125,0.475 0.075,0.475 0.075,0.325
  region: -0.075,0.475 -0.075,0.325 0.075,0.325 0.075,0.475
  rectangle: 0.325,0.275 0.475,0.325
  region: 0.275,0.475 0.275,0.325 0.325,0.325 0.325,0.475
  region: 0.475,0.525 0.325,0.525 0.325,0.475 0.475,0.475
  region: 0.525,0.325 0.525,0.475 0.475,0.475 0.475,0.325
  region: 0.325,0.475 0.325,0.325 0.475,0.325 0.475,0.475
  rectangle: -0.475,-0.125 -0.325,-0.075
  region: -0.525,0.075 -0.525,-0.075 -0.475,-0.075 -0.475,0.075
  region: -0.325,0.125 -0.475,0.125 -0.475,0.075 -0.325,0.075
  region: -0.275,-0.075 -0.275,0.075 -0.325,0.075 -0.325,-0.075
  region: -0.475,0.075 -0.475,-0.075 -0.325,-0.075 -0.325,0.075
  rectangle: -0.075,-0.125 0.075,-0.075
  region: -0.125,0.075 -0.125,-0.075 -0.075,-0.075 -0.075,0.075
  region: 0.075,0.125 -0.075,0.125 -0.075,0.075 0.075,0.075
  region: 0.125,-0.075 0.125,0.075 0.075,0.075 0.075,-0.075
  region: -0.075,0.075 -0.075,-0.075 0.075,-0.075 0.075,0.075
  rectangle: 0.325,-0.125 0.475,-0.075
  region: 0.275,0.075 0.275,-0.075 0.325,-0.075 0.325,0.075
  region: 0.475,0.125 0.325,0.125 0.325,0.075 0.475,0.075
  region: 0.525,-0.075 0.525,0.075 0.475,0.075 0.475,-0.075
  region: 0.325,0.075 0.325,-0.075 0.475,-0.075 0.475,0.075
  rectangle: -0.475,-0.525 -0.325,-0.475
  region: -0.525,-0.325 -0.525,-0.475 -0.475,-0.475 -0.475,-0.325
  region: -0.325,-0.275 -0.475,-0.275 -0.475,-0.325 -0.325,-0.325
  region: -0.275,-0.475 -0.275,-0.325 -0.325,-0.325 -0.325,-0.475
  region: -0.475,-0.325 -0.475,-0.475 -0.325,-0.475 -0.325,-0.325
  rectangle: -0.075,-0.525 0.075,-0.475
  region: -0.125,-0.325 -0.125,-0.475 -0.075,-0.475 -0.075,-0.325
  region: 0.075,-0.275 -0.075,-0.275 -0.075,-0.325 0.075,-0.325
  region: 0.125,-0.475 0.125,-0.325 0.075,-0.325 0.075,-0.475
  region: -0.075,-0.325 -0.075,-0.475 0.075,-0.475 0.075,-0.325
  rectangle: 0.325,-0.525 0.475,-0.475
  region: 0.275,-0.325 0.275,-0.475 0.325,-0.475 0.325,-0.325
  region: 0.475,-0.275 0.325,-0.275 0.325,-0.325 0.475,-0.325
  region: 0.525,-0.475 0.525,-0.325 0.475,-0.325 0.475,-0.475
  region: 0.325,-0.325 0.325,-0.475 0.475,-0.475 0.475,-0.325
Body Top:
  lines w0.1: -0.61,-0.61 -0.61,0.61 0.61,0.61 0.61,-0.61 -0.61,-0.61
Courtyard Top:
  lines w0.05: -0.71,-0.71 -0.71,0.71 0.71,0.71 0.71,-0.71 -0.71,-0.71
  lines w0.1: -0.5,0 0.5,0 ; 0,-0.5 0,0.5
3D body: height 0.68, standoff 0, extent -0.61,-0.61 0.61,0.61

## TMD12AAA [mm] "Micro SMD, 12-Leads, Body 1.62x1.22mm, Pitch 0.4mm, NSC Recommended"
height 0.68
pads (12):
  round 0.225 smd paste-0.112 mask+0.05: A1(-0.4,0.6) A2(0,0.6) A3(0.4,0.6) B1(-0.4,0.2) B2(0,0.2) B3(0.4,0.2) C1(-0.4,-0.2) C2(0,-0.2) C3(0.4,-0.2) D1(-0.4,-0.6) D2(0,-0.6) D3(0.4,-0.6)
Top Overlay:
  circle w0.1: c-0.715,0.915 r0.05
Top Paste:
  circle w0.05: c0.475,-0.675 r0.025
  circle w0.05: c0.325,-0.525 r0.025
  circle w0.05: c0.325,-0.675 r0.025
  circle w0.05: c0.475,-0.525 r0.025
  circle w0.05: c0.075,-0.675 r0.025
  circle w0.05: c-0.075,-0.525 r0.025
  circle w0.05: c-0.075,-0.675 r0.025
  circle w0.05: c0.075,-0.525 r0.025
  circle w0.05: c-0.325,-0.675 r0.025
  circle w0.05: c-0.475,-0.525 r0.025
  circle w0.05: c-0.475,-0.675 r0.025
  circle w0.05: c-0.325,-0.525 r0.025
  circle w0.05: c0.475,-0.275 r0.025
  circle w0.05: c0.325,-0.125 r0.025
  circle w0.05: c0.325,-0.275 r0.025
  circle w0.05: c0.475,-0.125 r0.025
  circle w0.05: c0.075,-0.275 r0.025
  circle w0.05: c-0.075,-0.125 r0.025
  circle w0.05: c-0.075,-0.275 r0.025
  circle w0.05: c0.075,-0.125 r0.025
  circle w0.05: c-0.325,-0.275 r0.025
  circle w0.05: c-0.475,-0.125 r0.025
  circle w0.05: c-0.475,-0.275 r0.025
  circle w0.05: c-0.325,-0.125 r0.025
  circle w0.05: c0.475,0.125 r0.025
  circle w0.05: c0.325,0.275 r0.025
  circle w0.05: c0.325,0.125 r0.025
  circle w0.05: c0.475,0.275 r0.025
  circle w0.05: c0.075,0.125 r0.025
  circle w0.05: c-0.075,0.275 r0.025
  circle w0.05: c-0.075,0.125 r0.025
  circle w0.05: c0.075,0.275 r0.025
  circle w0.05: c-0.325,0.125 r0.025
  circle w0.05: c-0.475,0.275 r0.025
  circle w0.05: c-0.475,0.125 r0.025
  circle w0.05: c-0.325,0.275 r0.025
  circle w0.05: c0.475,0.525 r0.025
  circle w0.05: c0.325,0.675 r0.025
  circle w0.05: c0.325,0.525 r0.025
  circle w0.05: c0.475,0.675 r0.025
  circle w0.05: c0.075,0.525 r0.025
  circle w0.05: c-0.075,0.675 r0.025
  circle w0.05: c-0.075,0.525 r0.025
  circle w0.05: c0.075,0.675 r0.025
  circle w0.05: c-0.325,0.525 r0.025
  circle w0.05: c-0.475,0.675 r0.025
  circle w0.05: c-0.475,0.525 r0.025
  circle w0.05: c-0.325,0.675 r0.025
  region: 0.325,-0.525 0.325,-0.675 0.475,-0.675 0.475,-0.525
  region: 0.525,-0.675 0.525,-0.525 0.475,-0.525 0.475,-0.675
  region: 0.475,-0.475 0.325,-0.475 0.325,-0.525 0.475,-0.525
  region: 0.275,-0.525 0.275,-0.675 0.325,-0.675 0.325,-0.525
  rectangle: 0.325,-0.725 0.475,-0.675
  region: -0.075,-0.525 -0.075,-0.675 0.075,-0.675 0.075,-0.525
  region: 0.125,-0.675 0.125,-0.525 0.075,-0.525 0.075,-0.675
  region: 0.075,-0.475 -0.075,-0.475 -0.075,-0.525 0.075,-0.525
  region: -0.125,-0.525 -0.125,-0.675 -0.075,-0.675 -0.075,-0.525
  rectangle: -0.075,-0.725 0.075,-0.675
  region: -0.475,-0.525 -0.475,-0.675 -0.325,-0.675 -0.325,-0.525
  region: -0.275,-0.675 -0.275,-0.525 -0.325,-0.525 -0.325,-0.675
  region: -0.325,-0.475 -0.475,-0.475 -0.475,-0.525 -0.325,-0.525
  region: -0.525,-0.525 -0.525,-0.675 -0.475,-0.675 -0.475,-0.525
  rectangle: -0.475,-0.725 -0.325,-0.675
  region: 0.325,-0.125 0.325,-0.275 0.475,-0.275 0.475,-0.125
  region: 0.525,-0.275 0.525,-0.125 0.475,-0.125 0.475,-0.275
  region: 0.475,-0.075 0.325,-0.075 0.325,-0.125 0.475,-0.125
  region: 0.275,-0.125 0.275,-0.275 0.325,-0.275 0.325,-0.125
  rectangle: 0.325,-0.325 0.475,-0.275
  region: -0.075,-0.125 -0.075,-0.275 0.075,-0.275 0.075,-0.125
  region: 0.125,-0.275 0.125,-0.125 0.075,-0.125 0.075,-0.275
  region: 0.075,-0.075 -0.075,-0.075 -0.075,-0.125 0.075,-0.125
  region: -0.125,-0.125 -0.125,-0.275 -0.075,-0.275 -0.075,-0.125
  rectangle: -0.075,-0.325 0.075,-0.275
  region: -0.475,-0.125 -0.475,-0.275 -0.325,-0.275 -0.325,-0.125
  region: -0.275,-0.275 -0.275,-0.125 -0.325,-0.125 -0.325,-0.275
  region: -0.325,-0.075 -0.475,-0.075 -0.475,-0.125 -0.325,-0.125
  region: -0.525,-0.125 -0.525,-0.275 -0.475,-0.275 -0.475,-0.125
  rectangle: -0.475,-0.325 -0.325,-0.275
  region: 0.325,0.275 0.325,0.125 0.475,0.125 0.475,0.275
  region: 0.525,0.125 0.525,0.275 0.475,0.275 0.475,0.125
  region: 0.475,0.325 0.325,0.325 0.325,0.275 0.475,0.275
  region: 0.275,0.275 0.275,0.125 0.325,0.125 0.325,0.275
  rectangle: 0.325,0.075 0.475,0.125
  region: -0.075,0.275 -0.075,0.125 0.075,0.125 0.075,0.275
  region: 0.125,0.125 0.125,0.275 0.075,0.275 0.075,0.125
  region: 0.075,0.325 -0.075,0.325 -0.075,0.275 0.075,0.275
  region: -0.125,0.275 -0.125,0.125 -0.075,0.125 -0.075,0.275
  rectangle: -0.075,0.075 0.075,0.125
  region: -0.475,0.275 -0.475,0.125 -0.325,0.125 -0.325,0.275
  region: -0.275,0.125 -0.275,0.275 -0.325,0.275 -0.325,0.125
  region: -0.325,0.325 -0.475,0.325 -0.475,0.275 -0.325,0.275
  region: -0.525,0.275 -0.525,0.125 -0.475,0.125 -0.475,0.275
  rectangle: -0.475,0.075 -0.325,0.125
  region: 0.325,0.675 0.325,0.525 0.475,0.525 0.475,0.675
  region: 0.525,0.525 0.525,0.675 0.475,0.675 0.475,0.525
  region: 0.475,0.725 0.325,0.725 0.325,0.675 0.475,0.675
  region: 0.275,0.675 0.275,0.525 0.325,0.525 0.325,0.675
  rectangle: 0.325,0.475 0.475,0.525
  region: -0.075,0.675 -0.075,0.525 0.075,0.525 0.075,0.675
  region: 0.125,0.525 0.125,0.675 0.075,0.675 0.075,0.525
  region: 0.075,0.725 -0.075,0.725 -0.075,0.675 0.075,0.675
  region: -0.125,0.675 -0.125,0.525 -0.075,0.525 -0.075,0.675
  rectangle: -0.075,0.475 0.075,0.525
  region: -0.475,0.675 -0.475,0.525 -0.325,0.525 -0.325,0.675
  region: -0.275,0.525 -0.275,0.675 -0.325,0.675 -0.325,0.525
  region: -0.325,0.725 -0.475,0.725 -0.475,0.675 -0.325,0.675
  region: -0.525,0.675 -0.525,0.525 -0.475,0.525 -0.475,0.675
  rectangle: -0.475,0.475 -0.325,0.525
Body Top:
  lines w0.1: -0.61,-0.81 0.61,-0.81 0.61,0.81 -0.61,0.81 -0.61,-0.81
Courtyard Top:
  lines w0.05: -0.71,-0.91 0.71,-0.91 0.71,0.91 -0.71,0.91 -0.71,-0.91
  lines w0.1: -0.5,0 0.5,0 ; 0,-0.5 0,0.5
3D body: height 0.68, standoff 0, extent -0.61,-0.81 0.61,0.81

## TMD20ECA [mm] "Micro SMD, 20-Leads, Body 2.07x1.72mm, Pitch 0.4mm, NSC Recommended"
height 0.68
pads (20):
  round 0.225 smd paste-0.112 mask+0.05: A1(-0.6,0.8) A2(-0.2,0.8) A3(0.2,0.8) A4(0.6,0.8) B1(-0.6,0.4) B2(-0.2,0.4) B3(0.2,0.4) B4(0.6,0.4) C1(-0.6,0) C2(-0.2,0) C3(0.2,0) C4(0.6,0) D1(-0.6,-0.4) D2(-0.2,-0.4) D3(0.2,-0.4) D4(0.6,-0.4) E1(-0.6,-0.8) E2(-0.2,-0.8) E3(0.2,-0.8) E4(0.6,-0.8)
Top Overlay:
  circle w0.1: c-0.965,1.14 r0.05
Top Paste:
  drawing of 180 lines, arcs and shapes, not listed
Body Top:
  lines w0.1: -0.86,-1.035 0.86,-1.035 0.86,1.035 -0.86,1.035 -0.86,-1.035
Courtyard Top:
  lines w0.05: -0.96,-1.135 0.96,-1.135 0.96,1.135 -0.96,1.135 -0.96,-1.135
  lines w0.1: -0.5,0 0.5,0 ; 0,-0.5 0,0.5
3D body: height 0.68, standoff 0, extent -0.86,-1.035 0.86,1.035

## TME34AAA [mm] "Micro SMD, 34-Leads, Body 2.82x2.82mm, Pitch 0.4mm, NSC Recommended"
height 0.68
pads (34):
  round 0.225 smd paste-0.112 mask+0.05: A1(-1.2,1.2) A2(-0.8,1.2) A3(-0.4,1.2) A4(0,1.2) A5(0.4,1.2) A6(0.8,1.2) A7(1.2,1.2) B1(-1.2,0.8) B2(-0.8,0.8) B3(-0.4,0.8) B4(0,0.8) B5(0.4,0.8) B6(0.8,0.8) B7(1.2,0.8) C1(-1.2,0.4) C7(1.2,0.4) D1(-1.2,0) D7(1.2,0) E1(-1.2,-0.4) E7(1.2,-0.4) F1(-1.2,-0.8) F2(-0.8,-0.8) F3(-0.4,-0.8) F4(0,-0.8) F5(0.4,-0.8) F6(0.8,-0.8) F7(1.2,-0.8) G1(-1.2,-1.2) G2(-0.8,-1.2) G3(-0.4,-1.2) G4(0,-1.2) G5(0.4,-1.2) G6(0.8,-1.2) G7(1.2,-1.2)
Top Overlay:
  circle w0.1: c-1.515,1.515 r0.05
Top Paste:
  drawing of 306 lines, arcs and shapes, not listed
Body Top:
  lines w0.1: -1.41,-1.41 1.41,-1.41 1.41,1.41 -1.41,1.41 -1.41,-1.41
Courtyard Top:
  lines w0.05: -1.51,-1.51 1.51,-1.51 1.51,1.51 -1.51,1.51 -1.51,-1.51
  lines w0.1: -0.5,0 0.5,0 ; 0,-0.5 0,0.5

## TO252-5 [mm]
pads (6):
  rect 2.2x0.8 smd: 1(-0.175,0.225)
  oval 2.2x0.8 smd: 2(-0.05,-1.025) 3(0,-2.275) 4(-0.025,-3.575) 5(-0.025,-4.85)
  rect 6.4x5.8 smd: ""(7,-2.3)
3D body "User Library-DPAK-5.STEP": height 2.4, standoff 0, extent -0.699,-5.65 9.6,1.05

## TS5B_L [mm] "D2-PAK, 6-Leads, Body 8.6x10.2mm, Pitch 1.7mm, Lead Span 14.1mm, IPC High Density"
height 4.65
pads (6):
  rect 2.9x1 smd: 1(-5.95,3.4) 2(-5.95,1.7) 3(-5.95,0) 4(-5.95,-1.7) 5(-5.95,-3.4)
  rect 8x10.4 smd: 6(3.4,0)
Top Overlay:
  circle w0.25: c-5.95,4.45 r0.125
  lines w0.2: -1,-5.2 -2.7,-5.2 -2.7,5.2 -1,5.2
Body Top:
  lines w0.1: -2.7,-5.2 -2.7,5.2 6.19,5.2 6.19,-5.2 -2.7,-5.2
Courtyard Top:
  lines w0.05: -7.5,-5.3 -7.5,5.3 7.5,5.3 7.5,-5.3 -7.5,-5.3
  lines w0.1: -0.5,0 0.5,0 ; 0,-0.5 0,0.5
3D body: height 4.65, standoff 0, extent -2.7,-5.2 6.19,5.2

## TS5B_M [mm] "D2-PAK, 6-Leads, Body 8.6x10.2mm, Pitch 1.7mm, Lead Span 14.1mm, IPC Low Density"
height 4.65
pads (6):
  rect 3.5x1.1 smd: 1(-6.05,3.4) 2(-6.05,1.7) 3(-6.05,0) 4(-6.05,-1.7) 5(-6.05,-3.4)
  rect 8.6x10.5 smd: 6(3.5,0)
Top Overlay:
  circle w0.25: c-6.05,4.5 r0.125
  lines w0.2: -1.2,-5.2 -2.6,-5.2 -2.6,5.2 -1.2,5.2
Body Top:
  lines w0.1: -2.6,-5.2 6.29,-5.2 6.29,5.2 -2.6,5.2 -2.6,-5.2
Courtyard Top:
  lines w0.05: -8.3,-5.75 8.3,-5.75 8.3,5.75 -8.3,5.75 -8.3,-5.75
  lines w0.1: -0.5,0 0.5,0 ; 0,-0.5 0,0.5
3D body: height 4.65, standoff 0, extent -2.6,-5.2 6.29,5.2

## TS5B_N [mm] "D2-PAK, 6-Leads, Body 8.6x10.2mm, Pitch 1.7mm, Lead Span 14.1mm, IPC Medium Density"
height 4.65
pads (6):
  rect 3.2x1.05 smd: 1(-6,3.4) 2(-6,1.7) 3(-6,0) 4(-6,-1.7) 5(-6,-3.4)
  rect 8.3x10.45 smd: 6(3.45,0)
Top Overlay:
  circle w0.25: c-6,4.475 r0.125
  lines w0.2: -1.1,-5.2 -2.65,-5.2 -2.65,5.2 -1.1,5.2
Body Top:
  lines w0.1: -2.65,-5.2 6.24,-5.2 6.24,5.2 -2.65,5.2 -2.65,-5.2
Courtyard Top:
  lines w0.05: -7.85,-5.475 7.85,-5.475 7.85,5.475 -7.85,5.475 -7.85,-5.475
  lines w0.1: -0.5,0 0.5,0 ; 0,-0.5 0,0.5
3D body: height 4.65, standoff 0, extent -2.65,-5.2 6.24,5.2

## TS7B_L [mm] "D2-PAK, 8-Leads, Body 8.6x10.2mm, Pitch 1.27mm, Lead Span 14.1mm, IPC High Density"
height 4.64
pads (8):
  rect 2.9x0.9 smd: 1(-5.95,3.81) 2(-5.95,2.54) 3(-5.95,1.27) 4(-5.95,0) 5(-5.95,-1.27) 6(-5.95,-2.54) 7(-5.95,-3.81)
  rect 8x10.45 smd: 8(3.4,0)
Top Overlay:
  circle w0.25: c-5.95,4.81 r0.125
  lines w0.2: -1,-5.2 -2.7,-5.2 -2.7,5.2 -1,5.2
Body Top:
  lines w0.1: -2.7,-5.2 -2.7,5.2 6.19,5.2 6.19,-5.2 -2.7,-5.2
Courtyard Top:
  lines w0.05: -7.5,-5.325 -7.5,5.325 7.5,5.325 7.5,-5.325 -7.5,-5.325
  lines w0.1: -0.5,0 0.5,0 ; 0,-0.5 0,0.5
3D body: height 4.64, standoff 0, extent -2.7,-5.2 6.19,5.2